# EAGLE library part K-HEADER-MALE-2X8- (library elpp-tht-v1.4)
PIN HEADER 2 rows, 90 degrees
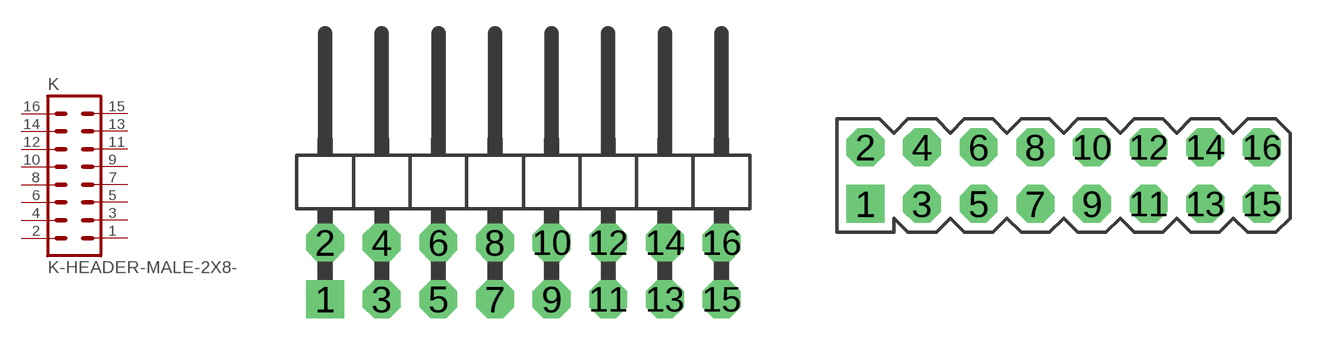
[diagram p34: symbol with the pads of ELPP-DIL-M-16-WAY-H; footprints ELPP-DIL-M-16-WAY-H, ELPP-DIL-M-16-WAY-V]

Designator prefix K

## K-HEADER-MALE-2X8-H (FARNELL: 1056023; RS: 6812666)  [ELPP-DIL-M-16-WAY-H]
1  1  pas
2  2  pas
3  3  pas
4  4  pas
5  5  pas
6  6  pas
7  7  pas
8  8  pas
9  9  pas
10  10  pas
11  11  pas
12  12  pas
13  13  pas
14  14  pas
15  15  pas
16  16  pas

## K-HEADER-MALE-2X8-V (FARNELL: 1098460; RS: 6812067)  [ELPP-DIL-M-16-WAY-V]
Pads as for ELPP-DIL-M-16-WAY-H

## Footprint ELPP-DIL-M-16-WAY-H (pad centres in mm)
PIN HEADER, 2 rows, 90 degrees
drill 1 pad 1.7 square: 1 -8.89,-1.27
drill 1 pad 1.7 octagon: 2 -8.89,1.27; 3 -6.35,-1.27; 4 -6.35,1.27; 5 -3.81,-1.27; 6 -3.81,1.27; 7 -1.27,-1.27; 8 -1.27,1.27; 9 1.27,-1.27; 10 1.27,1.27; 11 3.81,-1.27; 12 3.81,1.27; 13 6.35,-1.27; 14 6.35,1.27; 15 8.89,-1.27; 16 8.89,1.27

## Footprint ELPP-DIL-M-16-WAY-V (pad centres in mm)
drill 1 pad 1.7 square: 1 -8.89,-1.27
drill 1 pad 1.7 octagon: 2 -8.89,1.27; 3 -6.35,-1.27; 4 -6.35,1.27; 5 -3.81,-1.27; 6 -3.81,1.27; 7 -1.27,-1.27; 8 -1.27,1.27; 9 1.27,-1.27; 10 1.27,1.27; 11 3.81,-1.27; 12 3.81,1.27; 13 6.35,-1.27; 14 6.35,1.27; 15 8.89,-1.27; 16 8.89,1.27